# Altium schematic symbol library Res_Vishay_CRCW06031K00FKEA_eec.SchLib: 1 symbol
Pins are listed as number, name and electrical type; pins without a type are passive.

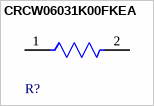
[diagram p0: symbol CRCW06031K00FKEA]

## CRCW06031K00FKEA
designator R?  (value not drawn)
pins: 1, 2